# Altium footprint library PCB - MISC - HDR1X2_SMD.PCBLIB: 1 footprints
Each footprint in its own frame and in the unit in brackets; x right, y up, seen from the top. Pads: shape width x height; smd on the part's side, far side on the other; paste and mask are expansions set on the pad; w line width, h text height; cw(c..) or ccw(c..) is an arc to the next point about the centre after c.
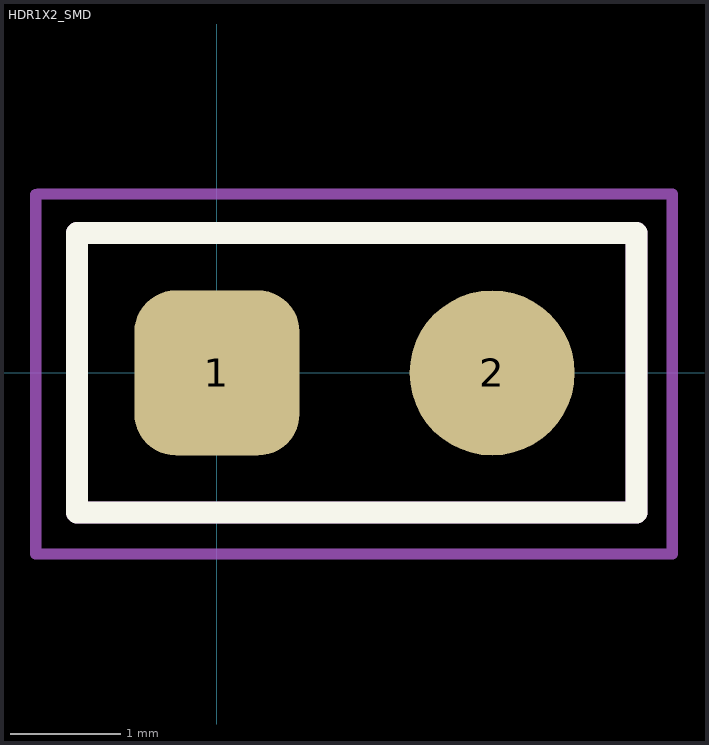
[diagram p0: the footprint, top view; thin cyan lines are the x and y axes]

## HDR1X2_SMD [mm] "SMD Connector; Header; 2 Position"
pads (2):
  rrect50% 1.5x1.5 smd: 1(0,0)
  round 1.5 smd: 2(2.5,0)
Top Overlay:
  lines w0.2: -1.27,-1.27 -1.27,1.27 3.81,1.27 3.81,-1.27 -1.27,-1.27
Top Assembly:
  lines w0.2: -1.27,-1.27 3.81,-1.27 3.81,1.27 -1.27,1.27 -1.27,-1.27
Top Courtyard:
  lines w0.102: -1.645,-1.645 4.125,-1.645 ; -1.645,-1.625 -1.645,1.62 ; -1.625,1.625 4.125,1.625 ; 4.135,-1.645 4.135,1.625
Top Designator:
  text ".Designator" at -1.25,2.725 h1
Top Value:
  text ".Comment" at -1.225,1.9 h1